# Altium schematic symbol library 0402WGF1001TCE.SchLib: 1 symbol
Pins are listed as number, name and electrical type; pins without a type are passive.

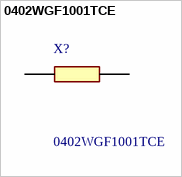
[diagram p0: symbol 0402WGF1001TCE]

## 0402WGF1001TCE
designator X?
1K +/-1% 1/16W +/-100ppm/ 0402 Chip Resistor; Manufacturer_Name: UNI-ROYAL(Uniroyal Elec); Geometry.Height: 0.4mm; Manufacturer_Part_Number: 0402WGF1001TCE; Mouser Part Number: *; Mouser Price/Stock: *; Arrow Part Number: *; Arrow Price/Stock: *; Datasheet Link: https://datasheet.lcsc.com/szlcsc/Uniroyal-Elec-0402WGF1001TCE_C11702.pdf
footprint RESC1005X40N
pins: 1, 2